# Altium footprint library PcbLib.PcbLib: 50 footprints (part 4 of 4)
Each footprint in its own frame and in the unit in brackets; x right, y up, seen from the top. Pads: shape width x height; smd on the part's side, far side on the other; paste and mask are expansions set on the pad; w line width, h text height; cw(c..) or ccw(c..) is an arc to the next point about the centre after c.
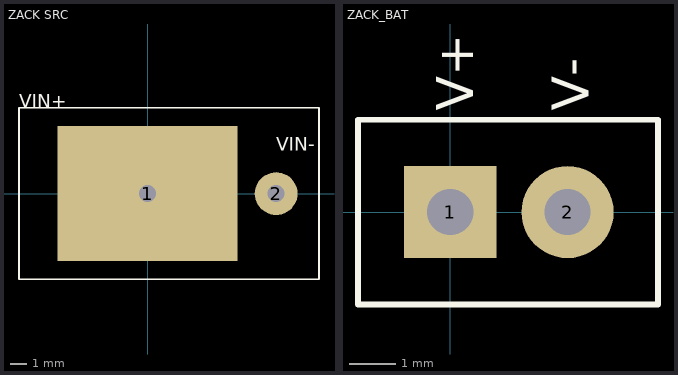
[diagram p3: the footprints below, top view; thin cyan lines are the x and y axes]

## ZACK SRC [mm] "HEADER, SINGLE, DISTANCE = 100mil"
pads (2):
  rect 10.668x8.001 hole 1: 1(0,0)
  round 2.54 hole 1: 2(7.62,0)
Top Overlay:
  lines w0.1: -7.62,-5.08 10.16,-5.08 10.16,5.08 -7.62,5.08 -7.62,-5.08
  lines w0.254: -1.778,-1.905 -1.778,1.778 5.08,1.778 5.08,-1.905 -1.778,-1.905
  text "VIN-" at 7.62,2.54 h0.8
  text "VIN+" at -7.62,5.08 h0.8

## ZACK_BAT [mm] "HEADER, SINGLE, DISTANCE = 100mil"
pads (2):
  rect 2x2 hole 1: 1(0,0)
  round 2 hole 1: 2(2.54,0)
Top Overlay:
  lines w0.127: -2,-2 4.5,-2 4.5,2 -2,2 -2,-2
  text "V-" at 3,2.2 h0.8
  text "V+" at 0.5,2.2 h0.8
3D body "User Library-Header1x2.STEP": height 8.17, standoff -2.81, extent -1.34,-1.3 3.74,1.24